# Altium schematic symbol library ICs.SchLib: 131 symbols (part 2 of 2)
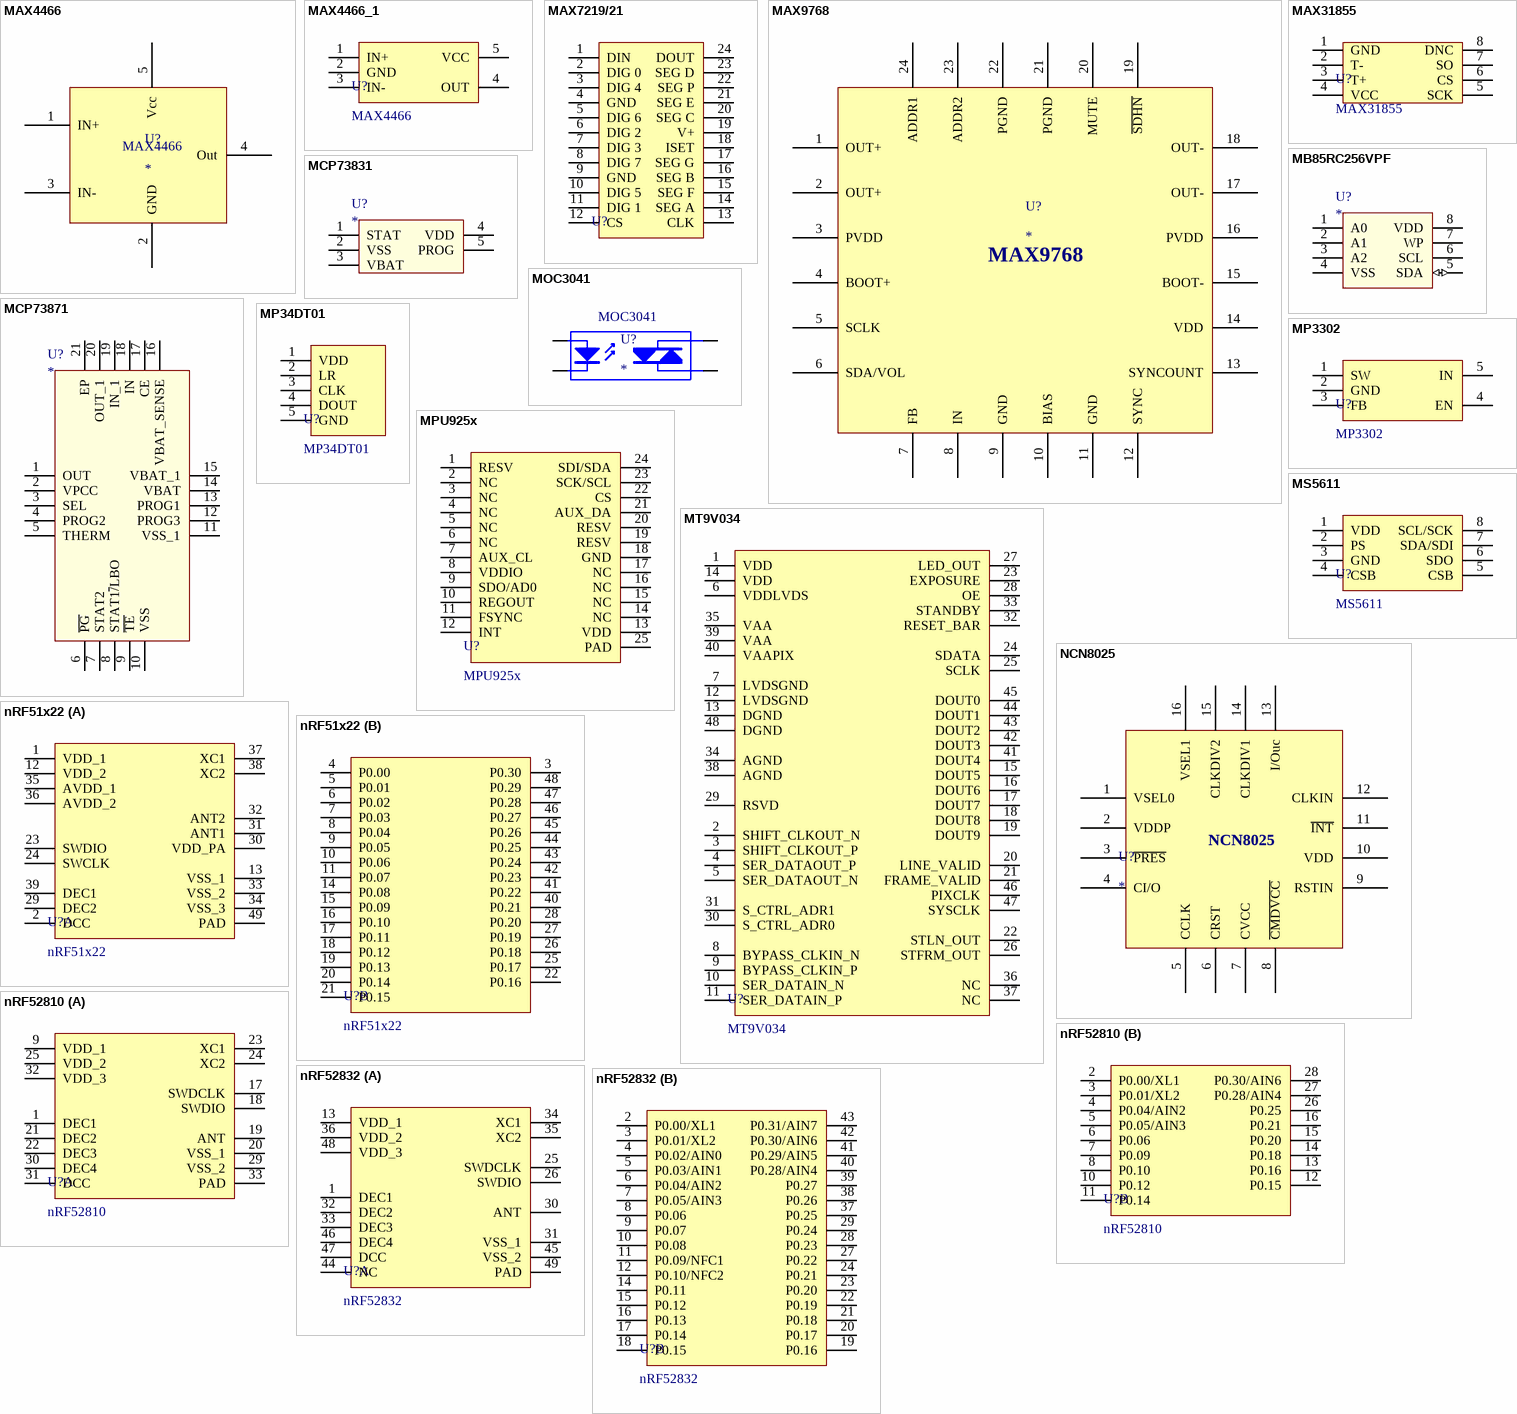
[diagram p10: symbols MAX4466 to nRF52832]

## nRF51x22
designator U?
MCU; Value: 32MHz; Type: QFN48 P0.4
footprint QFN_P0.4_48
part A pins: 1 VDD_1, 2 DCC, 12 VDD_2, 13 VSS_1, 23 SWDIO, 24 SWCLK, 29 DEC2, 30 VDD_PA, 31 ANT1, 32 ANT2, 33 VSS_2, 34 VSS_3, 35 AVDD_1, 36 AVDD_2, 37 XC1, 38 XC2, 39 DEC1, 49 PAD
part B pins: 3 P0.30, 4 P0.00, 5 P0.01, 6 P0.02, 7 P0.03, 8 P0.04, 9 P0.05, 10 P0.06, 11 P0.07, 14 P0.08, 15 P0.09, 16 P0.10, 17 P0.11, 18 P0.12, 19 P0.13, 20 P0.14, 21 P0.15, 22 P0.16, 25 P0.17, 26 P0.18, 27 P0.19, 28 P0.20, 40 P0.21, 41 P0.22, 42 P0.23, 43 P0.24, 44 P0.25, 45 P0.26, 46 P0.27, 47 P0.28, 48 P0.29

## nRF52810
designator U?
MCU; Value: 64MHz; Type: QFN48 P0.4
footprint QFN_P0.5_32
part A pins: 1 DEC1, 9 VDD_1, 17 SWDCLK, 18 SWDIO, 19 ANT, 20 VSS_1, 21 DEC2, 22 DEC3, 23 XC1, 24 XC2, 25 VDD_2, 29 VSS_2, 30 DEC4, 31 DCC, 32 VDD_3, 33 PAD
part B pins: 2 P0.00/XL1, 3 P0.01/XL2, 4 P0.04/AIN2, 5 P0.05/AIN3, 6 P0.06, 7 P0.09, 8 P0.10, 10 P0.12, 11 P0.14, 12 P0.15, 13 P0.16, 14 P0.18, 15 P0.20, 16 P0.21, 26 P0.25, 27 P0.28/AIN4, 28 P0.30/AIN6

## nRF52832
designator U?
MCU; Value: 64MHz; Type: QFN48 P0.4
footprint QFN_P0.4_48
part A pins: 1 DEC1, 13 VDD_1, 25 SWDCLK, 26 SWDIO, 30 ANT, 31 VSS_1, 32 DEC2, 33 DEC3, 34 XC1, 35 XC2, 36 VDD_2, 44 NC, 45 VSS_2, 46 DEC4, 47 DCC, 48 VDD_3, 49 PAD
part B pins: 2 P0.00/XL1, 3 P0.01/XL2, 4 P0.02/AIN0, 5 P0.03/AIN1, 6 P0.04/AIN2, 7 P0.05/AIN3, 8 P0.06, 9 P0.07, 10 P0.08, 11 P0.09/NFC1, 12 P0.10/NFC2, 14 P0.11, 15 P0.12, 16 P0.13, 17 P0.14, 18 P0.15, 19 P0.16, 20 P0.17, 21 P0.18, 22 P0.19, 23 P0.20, 24 P0.21, 27 P0.22, 28 P0.23, 29 P0.24, 37 P0.25, 38 P0.26, 39 P0.27, 40 P0.28/AIN4, 41 P0.29/AIN5, 42 P0.30/AIN6, 43 P0.31/AIN7

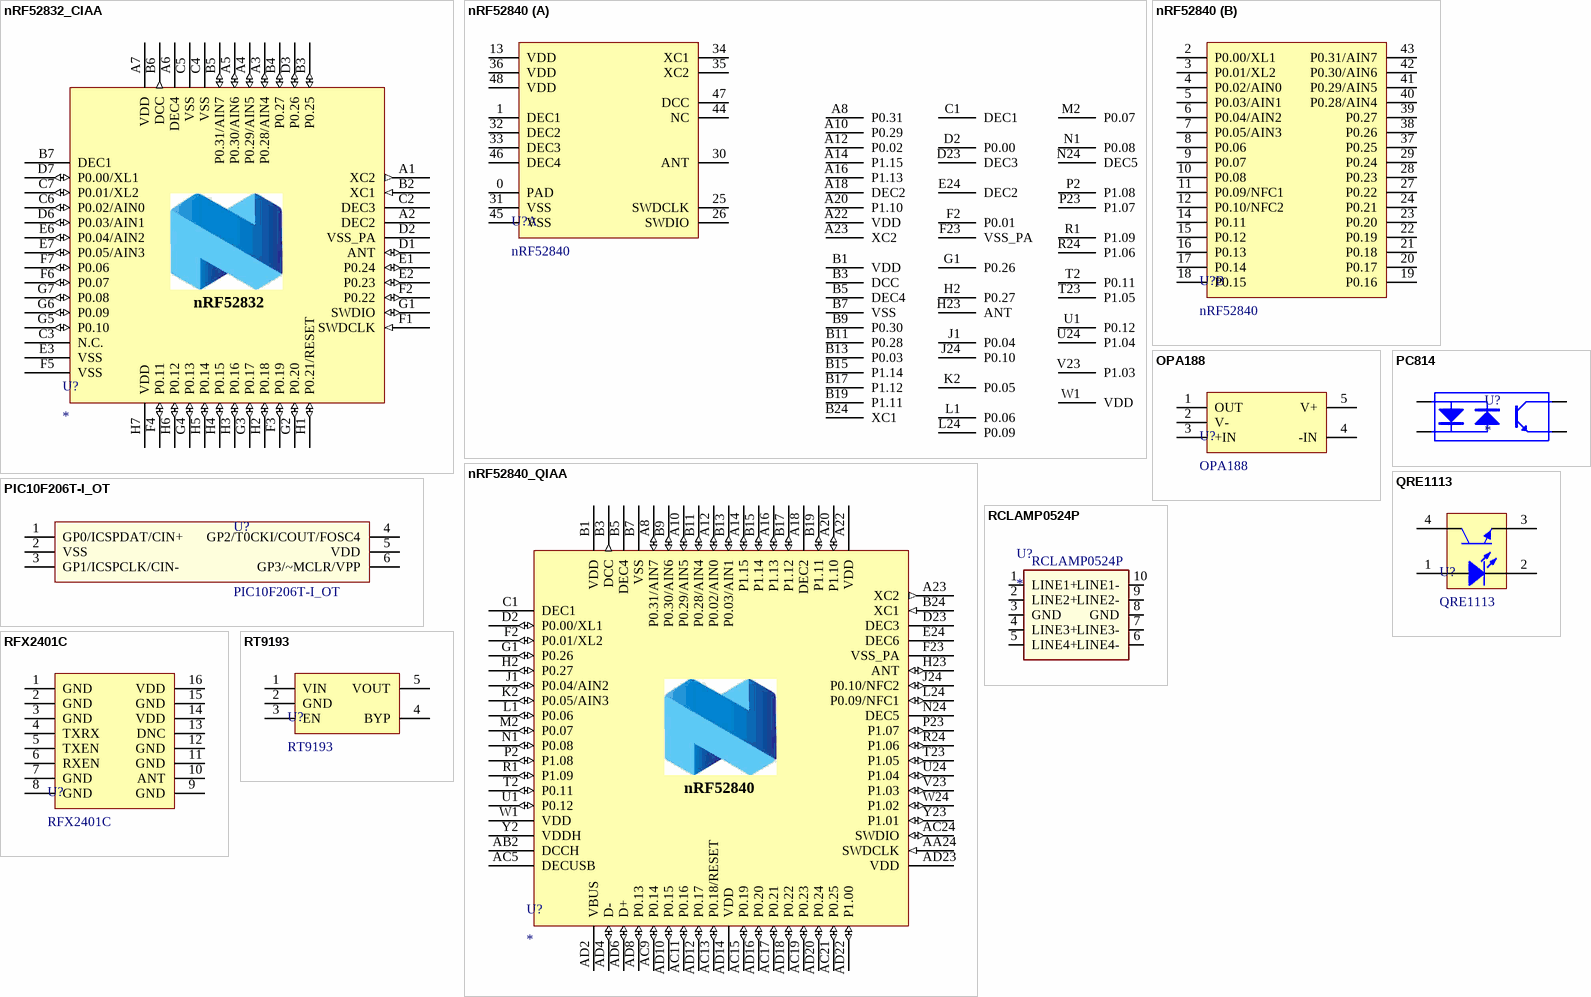
[diagram p6: symbols nRF52832_CIAA to RT9193]

## nRF52832_CIAA
designator U?
footprint BGA50C40P7X8_295X322X50
pins: A1 XC2 (out), A2 DEC2 (power), A3 P0.28/AIN4 (io), A4 P0.29/AIN5 (io), A5 P0.30/AIN6 (io), A6 DEC4 (power), A7 VDD (power), B2 XC1 (in), B3 P0.25 (io), B4 P0.27 (io), B5 P0.31/AIN7 (io), B6 DCC (out), B7 DEC1 (power), C2 DEC3 (power), C3 N.C. (power), C4 VSS (power), C5 VSS (power), C6 P0.02/AIN0 (io), C7 P0.01/XL2 (io), D1 ANT (io), D2 VSS_PA (power), D3 P0.26 (io), D6 P0.03/AIN1 (io), D7 P0.00/XL1 (io), E1 P0.24 (io), E2 P0.23 (io), E3 VSS (power), E6 P0.04/AIN2 (io), E7 P0.05/AIN3 (io), F1 SWDCLK (in), F2 P0.22 (io), F3 P0.19 (io), F4 P0.11 (io), F5 VSS (power), F6 P0.07 (io), F7 P0.06 (io), G1 SWDIO (io), G2 P0.20 (io), G3 P0.17 (io), G4 P0.13 (io), G5 P0.10 (io), G6 P0.09 (io), G7 P0.08 (io), H1 P0.21/RESET (io), H2 P0.18 (io), H3 P0.16 (io), H4 P0.15 (io), H5 P0.14 (io), H6 P0.12 (io), H7 VDD (power)
text: nRF52832

## nRF52840
designator U?
MCU
footprint AQFN_P0.5_73
part A pins: 0 PAD, 1 DEC1, 13 VDD, 25 SWDCLK, 26 SWDIO, 30 ANT, 31 VSS, 32 DEC2, 33 DEC3, 34 XC1, 35 XC2, 36 VDD, 44 NC, 45 VSS, 46 DEC4, 47 DCC, 48 VDD, A8 P0.31, A10 P0.29, A12 P0.02, A14 P1.15, A16 P1.13, A18 DEC2, A20 P1.10, A22 VDD, A23 XC2, B1 VDD, B3 DCC, B5 DEC4, B7 VSS, B9 P0.30, B11 P0.28, B13 P0.03, B15 P1.14, B17 P1.12, B19 P1.11, B24 XC1, C1 DEC1, D2 P0.00, D23 DEC3, E24 DEC2, F2 P0.01, F23 VSS_PA, G1 P0.26, H2 P0.27, H23 ANT, J1 P0.04, J24 P0.10, K2 P0.05, L1 P0.06, L24 P0.09, M2 P0.07, N1 P0.08, N24 DEC5, P2 P1.08, P23 P1.07, R1 P1.09, R24 P1.06, T2 P0.11, T23 P1.05, U1 P0.12, U24 P1.04, V23 P1.03, W1 VDD
part B pins: 2 P0.00/XL1, 3 P0.01/XL2, 4 P0.02/AIN0, 5 P0.03/AIN1, 6 P0.04/AIN2, 7 P0.05/AIN3, 8 P0.06, 9 P0.07, 10 P0.08, 11 P0.09/NFC1, 12 P0.10/NFC2, 14 P0.11, 15 P0.12, 16 P0.13, 17 P0.14, 18 P0.15, 19 P0.16, 20 P0.17, 21 P0.18, 22 P0.19, 23 P0.20, 24 P0.21, 27 P0.22, 28 P0.23, 29 P0.24, 37 P0.25, 38 P0.26, 39 P0.27, 40 P0.28/AIN4, 41 P0.29/AIN5, 42 P0.30/AIN6, 43 P0.31/AIN7

## nRF52840_QIAA
designator U?
footprint nRF52840_QIAA
pins: A8 P0.31/AIN7 (io), A10 P0.29/AIN5 (io), A12 P0.02/AIN0 (io), A14 P1.15 (io), A16 P1.13 (io), A18 DEC2 (power), A20 P1.10 (io), A22 VDD (power), A23 XC2 (out), AA24 SWDCLK (in), AB2 DCCH (power), AC5 DECUSB (power), AC9 P0.14 (io), AC11 P0.16 (io), AC13 P0.18/RESET (io), AC15 P0.19 (io), AC17 P0.21 (io), AC19 P0.23 (io), AC21 P0.25 (io), AC24 SWDIO (io), AD2 VBUS (power), AD4 D- (io), AD6 D+ (io), AD8 P0.13 (io), AD10 P0.15 (io), AD12 P0.17 (io), AD14 VDD (power), AD16 P0.20 (io), AD18 P0.22 (io), AD20 P0.24 (io), AD22 P1.00 (io), AD23 VDD (power), B1 VDD (power), B3 DCC (out), B5 DEC4 (power), B7 VSS (power), B9 P0.30/AIN6 (io), B11 P0.28/AIN4 (io), B13 P0.03/AIN1 (io), B15 P1.14 (io), B17 P1.12 (io), B19 P1.11 (io), B24 XC1 (in), C1 DEC1 (power), D2 P0.00/XL1 (io), D23 DEC3 (power), E24 DEC6 (power), F2 P0.01/XL2 (io), F23 VSS_PA (power), G1 P0.26 (io), H2 P0.27 (io), H23 ANT (io), J1 P0.04/AIN2 (io), J24 P0.10/NFC2 (io), K2 P0.05/AIN3 (io), L1 P0.06 (io), L24 P0.09/NFC1 (io), M2 P0.07 (io), N1 P0.08 (io), N24 DEC5 (power), P2 P1.08 (io), P23 P1.07 (io), R1 P1.09 (io), R24 P1.06 (io), T2 P0.11 (io), T23 P1.05 (io), U1 P0.12 (io), U24 P1.04 (io), V23 P1.03 (io), W1 VDD (power), W24 P1.02 (io), Y2 VDDH (power), Y23 P1.01 (io)
text: nRF52840

## OPA188
designator U?
OP
footprint SOT23-5
pins: 1 OUT, 2 V-, 3 +IN, 4 -IN, 5 V+

## PC814
designator U?
footprint SMT-4
pins: 1 A "Anode", 2 K "Cathode", 3 E "Emitter", 4 C "Collector"

## PIC10F206T-I_OT
designator U?
8-bit Flash Microcontroller; Manufacturer_Name: Microchip; Manufacturer_Part_Number: PIC10F206T-I/OT; Allied_Number: 70046211; RS Part Number: 2508408815; RS Price/Stock: http://uk.rs-online.com/web/p/products/2508408815; Allied Price/Stock: https://www.alliedelec.com/microchip-technology-inc-pic10f206t-i-ot/70046211/; Arrow Part Number: PIC10F206T-I/OT; Arrow Price/Stock: https://www.arrow.com/en/products/pic10f206t-iot/microchip-technology; Datasheet Link: *
footprint SOT23-6N
pins: 1 GP0/ICSPDAT/CIN+, 2 VSS, 3 GP1/ICSPCLK/CIN-, 4 GP2/T0CKI/COUT/FOSC4, 5 VDD, 6 GP3/~MCLR/VPP

## QRE1113
designator U?
Sensor IR
footprint QRE1113GR
pins: 1 A, 2 C, 3 E, 4 C

## RCLAMP0524P
designator U?
footprint RCLAMP0524P
pins: 1 LINE1+, 2 LINE2+, 3 GND (power), 4 LINE3+, 5 LINE4+, 6 LINE4-, 7 LINE3-, 8 GND (power), 9 LINE2-, 10 LINE1-

## RFX2401C
designator U?
Radio PA/LNA; Type: QFN16 P0.5
footprint QFN_P0.5_16
pins: 1 GND, 2 GND, 3 GND, 4 TXRX, 5 TXEN, 6 RXEN, 7 GND, 8 GND, 9 GND, 10 ANT, 11 GND, 12 GND, 13 DNC, 14 VDD, 15 GND, 16 VDD

## RT9193
designator U?
Power; Value: 3V3; Type: SOT23-5
footprint SOT23-5
pins: 1 VIN, 2 GND, 3 EN (power), 4 BYP, 5 VOUT

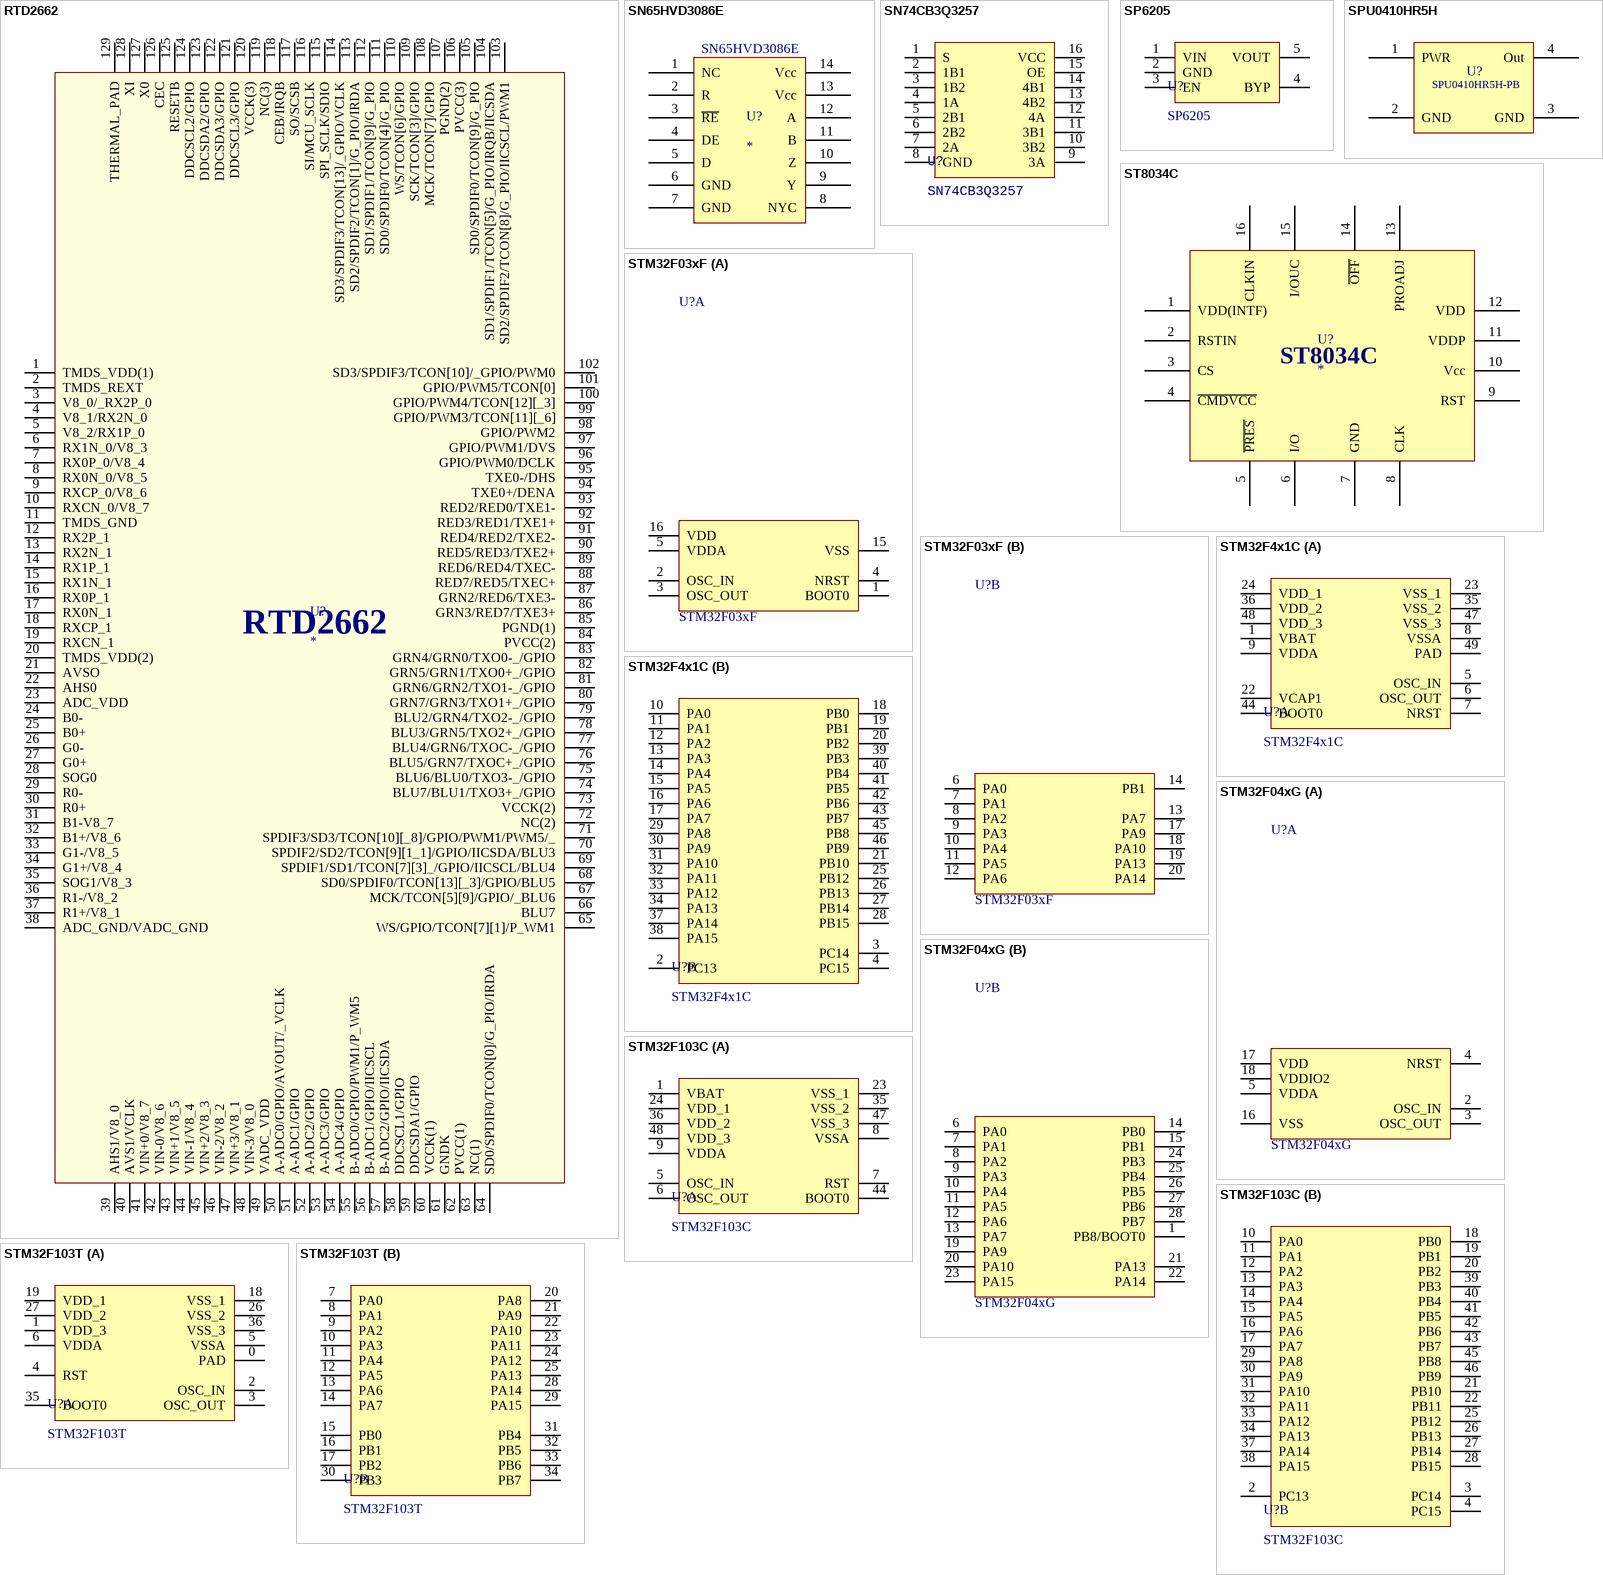
[diagram p7: symbols RTD2662 to STM32F103T]

## RTD2662
designator U?
footprint QFP128
pins: 1 TMDS_VDD(1), 2 TMDS_REXT, 3 V8_0/_RX2P_0, 4 V8_1/RX2N_0, 5 V8_2/RX1P_0, 6 RX1N_0/V8_3, 7 RX0P_0/V8_4, 8 RX0N_0/V8_5, 9 RXCP_0/V8_6, 10 RXCN_0/V8_7, 11 TMDS_GND, 12 RX2P_1, 13 RX2N_1, 14 RX1P_1, 15 RX1N_1, 16 RX0P_1, 17 RX0N_1, 18 RXCP_1, 19 RXCN_1, 20 TMDS_VDD(2), 21 AVSO, 22 AHS0, 23 ADC_VDD, 24 B0-, 25 B0+, 26 G0-, 27 G0+, 28 SOG0, 29 R0-, 30 R0+, 31 B1-V8_7, 32 B1+/V8_6, 33 G1-/V8_5, 34 G1+/V8_4, 35 SOG1/V8_3, 36 R1-/V8_2, 37 R1+/V8_1, 38 ADC_GND/VADC_GND, 39 AHS1/V8_0, 40 AVS1/VCLK, 41 VIN+0/V8_7, 42 VIN-0/V8_6, 43 VIN+1/V8_5, 44 VIN-1/V8_4, 45 VIN+2/V8_3, 46 VIN-2/V8_2, 47 VIN+3/V8_1, 48 VIN-3/V8_0, 49 VADC_VDD, 50 A-ADC0/GPIO/AVOUT/_VCLK, 51 A-ADC1/GPIO, 52 A-ADC2/GPIO, 53 A-ADC3/GPIO, 54 A-ADC4/GPIO, 55 B-ADC0/GPIO/PWM1/P_WM5, 56 B-ADC1/GPIO/IICSCL, 57 B-ADC2/GPIO/IICSDA, 58 DDCSCL1/GPIO, 59 DDCSDA1/GPIO, 60 VCCK(1), 61 GNDK, 62 PVCC(1), 63 NC(1), 64 SD0/SPDIF0/TCON[0]/G_PIO/IRDA, 65 WS/GPIO/TCON[7][1]/P_WM1, 66 BLU7, 67 MCK/TCON[5][9]/GPIO/_BLU6, 68 SD0/SPDIF0/TCON[13][_3]/GPIO/BLU5, 69 SPDIF1/SD1/TCON[7][3]_/GPIO/IICSCL/BLU4, 70 SPDIF2/SD2/TCON[9][1_1]/GPIO/IICSDA/BLU3, 71 SPDIF3/SD3/TCON[10][_8]/GPIO/PWM1/PWM5/_, 72 NC(2), 73 VCCK(2), 74 BLU7/BLU1/TXO3+_/GPIO, 75 BLU6/BLU0/TXO3-_/GPIO, 76 BLU5/GRN7/TXOC+_/GPIO, 77 BLU4/GRN6/TXOC-_/GPIO, 78 BLU3/GRN5/TXO2+_/GPIO, 79 BLU2/GRN4/TXO2-_/GPIO, 80 GRN7/GRN3/TXO1+_/GPIO, 81 GRN6/GRN2/TXO1-_/GPIO, 82 GRN5/GRN1/TXO0+_/GPIO, 83 GRN4/GRN0/TXO0-_/GPIO, 84 PVCC(2), 85 PGND(1), 86 GRN3/RED7/TXE3+, 87 GRN2/RED6/TXE3-, 88 RED7/RED5/TXEC+, 89 RED6/RED4/TXEC-, 90 RED5/RED3/TXE2+, 91 RED4/RED2/TXE2-, 92 RED3/RED1/TXE1+, 93 RED2/RED0/TXE1-, 94 TXE0+/DENA, 95 TXE0-/DHS, 96 GPIO/PWM0/DCLK, 97 GPIO/PWM1/DVS, 98 GPIO/PWM2, 99 GPIO/PWM3/TCON[11][_6], 100 GPIO/PWM4/TCON[12][_3], 101 GPIO/PWM5/TCON[0], 102 SD3/SPDIF3/TCON[10]/_GPIO/PWM0, 103 SD2/SPDIF2/TCON[8]/G_PIO/IICSCL/PWM1, 104 SD1/SPDIF1/TCON[5]/G_PIO/IRQB/IICSDA, 105 SD0/SPDIF0/TCON[9]/G_PIO, 106 PVCC(3), 107 PGND(2), 108 MCK/TCON[7]/GPIO, 109 SCK/TCON[3]/GPIO, 110 WS/TCON[6]/GPIO, 111 SD0/SPDIF0/TCON[4]/G_PIO, 112 SD1/SPDIF1/TCON[9]/G_PIO, 113 SD2/SPDIF2/TCON[1]/G_PIO/IRDA, 114 SD3/SPDIF3/TCON[13]/_GPIO/VCLK, 115 SPI_SCLK/SDIO, 116 SI/MCU_SCLK, 117 SO/SCSB, 118 CEB/IRQB, 119 NC(3), 120 VCCK(3), 121 DDCSCL3/GPIO, 122 DDCSDA3/GPIO, 123 DDCSDA2/GPIO, 124 DDCSCL2/GPIO, 125 RESETB, 126 CEC, 127 X0, 128 XI, 129 THERMAL_PAD

## SN65HVD3086E
designator U?
pins: 1 NC, 2 R, 3 ~{RE}, 4 DE, 5 D, 6 GND, 7 GND, 8 NYC, 9 Y, 10 Z, 11 B, 12 A, 13 Vcc, 14 Vcc

## SN74CB3Q3257
designator U?
Switch; Type: TSSOP16 P0.65
footprint TSSOP_E170_P0.65_16
pins: 1 S, 2 1B1, 3 1B2, 4 1A, 5 2B1, 6 2B2, 7 2A, 8 GND, 9 3A, 10 3B2, 11 3B1, 12 4A, 13 4B2, 14 4B1, 15 OE, 16 VCC

## SP6205
designator U?
Power; Type: SOT23-5
footprint SOT23-5
pins: 1 VIN, 2 GND, 3 EN (power), 4 BYP, 5 VOUT

## SPU0410HR5H
designator U?  (value not drawn)
footprint SPW2430HR5H-B
pins: 1 PWR, 2 GND, 3 GND, 4 Out
text: SPU0410HR5H‐PB

## ST8034C
designator U?
footprint QFN16
pins: 1 VDD(INTF), 2 RSTIN, 3 CS, 4 ~{CMDVCC}, 5 ~{PRES}, 6 I/O, 7 GND, 8 CLK, 9 RST, 10 Vcc, 11 VDDP, 12 VDD, 13 PROADJ, 14 ~{OFF}, 15 I/OUC, 16 CLKIN

## STM32F03xF
designator U?
MCU
footprint TSSOP_E170_P0.65_20
part A pins: 1 BOOT0, 2 OSC_IN, 3 OSC_OUT, 4 NRST, 5 VDDA, 15 VSS, 16 VDD
part B pins: 6 PA0, 7 PA1, 8 PA2, 9 PA3, 10 PA4, 11 PA5, 12 PA6, 13 PA7, 14 PB1, 17 PA9, 18 PA10, 19 PA13, 20 PA14

## STM32F4x1C
designator U?
MCU; Value: 100MHz; Type: QFN48 P0.5
footprint QFN_P0.5_48
part A pins: 1 VBAT, 5 OSC_IN, 6 OSC_OUT, 7 NRST, 8 VSSA, 9 VDDA, 22 VCAP1, 23 VSS_1, 24 VDD_1, 35 VSS_2, 36 VDD_2, 44 BOOT0, 47 VSS_3, 48 VDD_3, 49 PAD
part B pins: 2 PC13, 3 PC14, 4 PC15, 10 PA0, 11 PA1, 12 PA2, 13 PA3, 14 PA4, 15 PA5, 16 PA6, 17 PA7, 18 PB0, 19 PB1, 20 PB2, 21 PB10, 25 PB12, 26 PB13, 27 PB14, 28 PB15, 29 PA8, 30 PA9, 31 PA10, 32 PA11, 33 PA12, 34 PA13, 37 PA14, 38 PA15, 39 PB3, 40 PB4, 41 PB5, 42 PB6, 43 PB7, 45 PB8, 46 PB9

## STM32F04xG
designator U?
MCU
footprint QFN_P0.5_28
part A pins: 2 OSC_IN, 3 OSC_OUT, 4 NRST, 5 VDDA, 16 VSS, 17 VDD, 18 VDDIO2
part B pins: 1 PB8/BOOT0, 6 PA0, 7 PA1, 8 PA2, 9 PA3, 10 PA4, 11 PA5, 12 PA6, 13 PA7, 14 PB0, 15 PB1, 19 PA9, 20 PA10, 21 PA13, 22 PA14, 23 PA15, 24 PB3, 25 PB4, 26 PB5, 27 PB6, 28 PB7

## STM32F103C
designator U?
MCU; Type: LQFP48 P0.5
footprint LQFP_P0.5_48
part A pins: 1 VBAT, 5 OSC_IN, 6 OSC_OUT, 7 RST, 8 VSSA, 9 VDDA, 23 VSS_1, 24 VDD_1, 35 VSS_2, 36 VDD_2, 44 BOOT0, 47 VSS_3, 48 VDD_3
part B pins: 2 PC13, 3 PC14, 4 PC15, 10 PA0, 11 PA1, 12 PA2, 13 PA3, 14 PA4, 15 PA5, 16 PA6, 17 PA7, 18 PB0, 19 PB1, 20 PB2, 21 PB10, 22 PB11, 25 PB12, 26 PB13, 27 PB14, 28 PB15, 29 PA8, 30 PA9, 31 PA10, 32 PA11, 33 PA12, 34 PA13, 37 PA14, 38 PA15, 39 PB3, 40 PB4, 41 PB5, 42 PB6, 43 PB7, 45 PB8, 46 PB9

## STM32F103T
designator U?
MCU; Type: QFN36 P0.5
footprint QFN_P0.5_36
part A pins: 0 PAD, 1 VDD_3, 2 OSC_IN, 3 OSC_OUT, 4 RST, 5 VSSA, 6 VDDA, 18 VSS_1, 19 VDD_1, 26 VSS_2, 27 VDD_2, 35 BOOT0, 36 VSS_3
part B pins: 7 PA0, 8 PA1, 9 PA2, 10 PA3, 11 PA4, 12 PA5, 13 PA6, 14 PA7, 15 PB0, 16 PB1, 17 PB2, 20 PA8, 21 PA9, 22 PA10, 23 PA11, 24 PA12, 25 PA13, 28 PA14, 29 PA15, 30 PB3, 31 PB4, 32 PB5, 33 PB6, 34 PB7

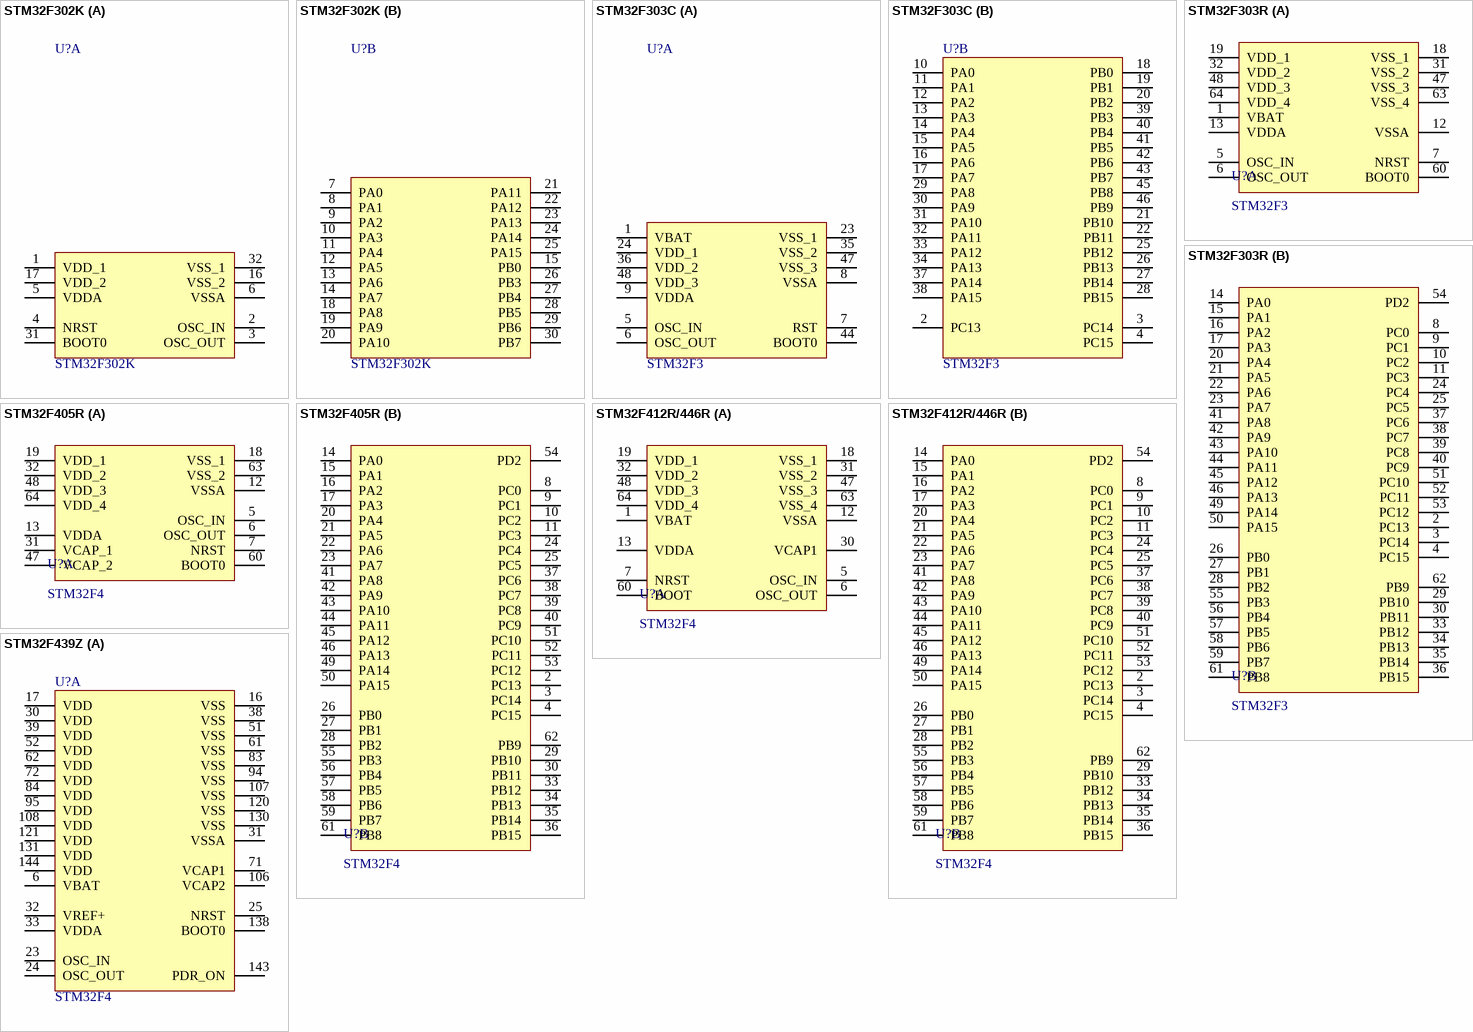
[diagram p8: symbols STM32F302K to STM32F439Z]

## STM32F302K
designator U?
MCU
footprint QFN_P0.5_32
part A pins: 1 VDD_1, 2 OSC_IN, 3 OSC_OUT, 4 NRST, 5 VDDA, 6 VSSA, 16 VSS_2, 17 VDD_2, 31 BOOT0, 32 VSS_1
part B pins: 7 PA0, 8 PA1, 9 PA2, 10 PA3, 11 PA4, 12 PA5, 13 PA6, 14 PA7, 15 PB0, 18 PA8, 19 PA9, 20 PA10, 21 PA11, 22 PA12, 23 PA13, 24 PA14, 25 PA15, 26 PB3, 27 PB4, 28 PB5, 29 PB6, 30 PB7

## STM32F303C
designator U?, comment STM32F3
MCU
footprint LQFP_P0.5_48
part A pins: 1 VBAT, 5 OSC_IN, 6 OSC_OUT, 7 RST, 8 VSSA, 9 VDDA, 23 VSS_1, 24 VDD_1, 35 VSS_2, 36 VDD_2, 44 BOOT0, 47 VSS_3, 48 VDD_3
part B pins: 2 PC13, 3 PC14, 4 PC15, 10 PA0, 11 PA1, 12 PA2, 13 PA3, 14 PA4, 15 PA5, 16 PA6, 17 PA7, 18 PB0, 19 PB1, 20 PB2, 21 PB10, 22 PB11, 25 PB12, 26 PB13, 27 PB14, 28 PB15, 29 PA8, 30 PA9, 31 PA10, 32 PA11, 33 PA12, 34 PA13, 37 PA14, 38 PA15, 39 PB3, 40 PB4, 41 PB5, 42 PB6, 43 PB7, 45 PB8, 46 PB9

## STM32F303R
designator U?, comment STM32F3
MCU
footprint LQFP_P0.5_64
part A pins: 1 VBAT, 5 OSC_IN, 6 OSC_OUT, 7 NRST, 12 VSSA, 13 VDDA, 18 VSS_1, 19 VDD_1, 31 VSS_2, 32 VDD_2, 47 VSS_3, 48 VDD_3, 60 BOOT0, 63 VSS_4, 64 VDD_4
part B pins: 2 PC13, 3 PC14, 4 PC15, 8 PC0, 9 PC1, 10 PC2, 11 PC3, 14 PA0, 15 PA1, 16 PA2, 17 PA3, 20 PA4, 21 PA5, 22 PA6, 23 PA7, 24 PC4, 25 PC5, 26 PB0, 27 PB1, 28 PB2, 29 PB10, 30 PB11, 33 PB12, 34 PB13, 35 PB14, 36 PB15, 37 PC6, 38 PC7, 39 PC8, 40 PC9, 41 PA8, 42 PA9, 43 PA10, 44 PA11, 45 PA12, 46 PA13, 49 PA14, 50 PA15, 51 PC10, 52 PC11, 53 PC12, 54 PD2, 55 PB3, 56 PB4, 57 PB5, 58 PB6, 59 PB7, 61 PB8, 62 PB9

## STM32F405R
designator U?, comment STM32F4
MCU
footprint LQFP_P0.5_64
part A pins: 5 OSC_IN, 6 OSC_OUT, 7 NRST, 12 VSSA, 13 VDDA, 18 VSS_1, 19 VDD_1, 31 VCAP_1, 32 VDD_2, 47 VCAP_2, 48 VDD_3, 60 BOOT0, 63 VSS_2, 64 VDD_4
part B pins: 2 PC13, 3 PC14, 4 PC15, 8 PC0, 9 PC1, 10 PC2, 11 PC3, 14 PA0, 15 PA1, 16 PA2, 17 PA3, 20 PA4, 21 PA5, 22 PA6, 23 PA7, 24 PC4, 25 PC5, 26 PB0, 27 PB1, 28 PB2, 29 PB10, 30 PB11, 33 PB12, 34 PB13, 35 PB14, 36 PB15, 37 PC6, 38 PC7, 39 PC8, 40 PC9, 41 PA8, 42 PA9, 43 PA10, 44 PA11, 45 PA12, 46 PA13, 49 PA14, 50 PA15, 51 PC10, 52 PC11, 53 PC12, 54 PD2, 55 PB3, 56 PB4, 57 PB5, 58 PB6, 59 PB7, 61 PB8, 62 PB9

## STM32F412R/446R
designator U?, comment STM32F4
MCU
footprint LQFP_P0.5_64
part A pins: 1 VBAT, 5 OSC_IN, 6 OSC_OUT, 7 NRST, 12 VSSA, 13 VDDA, 18 VSS_1, 19 VDD_1, 30 VCAP1, 31 VSS_2, 32 VDD_2, 47 VSS_3, 48 VDD_3, 60 BOOT, 63 VSS_4, 64 VDD_4
part B pins: 2 PC13, 3 PC14, 4 PC15, 8 PC0, 9 PC1, 10 PC2, 11 PC3, 14 PA0, 15 PA1, 16 PA2, 17 PA3, 20 PA4, 21 PA5, 22 PA6, 23 PA7, 24 PC4, 25 PC5, 26 PB0, 27 PB1, 28 PB2, 29 PB10, 33 PB12, 34 PB13, 35 PB14, 36 PB15, 37 PC6, 38 PC7, 39 PC8, 40 PC9, 41 PA8, 42 PA9, 43 PA10, 44 PA11, 45 PA12, 46 PA13, 49 PA14, 50 PA15, 51 PC10, 52 PC11, 53 PC12, 54 PD2, 55 PB3, 56 PB4, 57 PB5, 58 PB6, 59 PB7, 61 PB8, 62 PB9

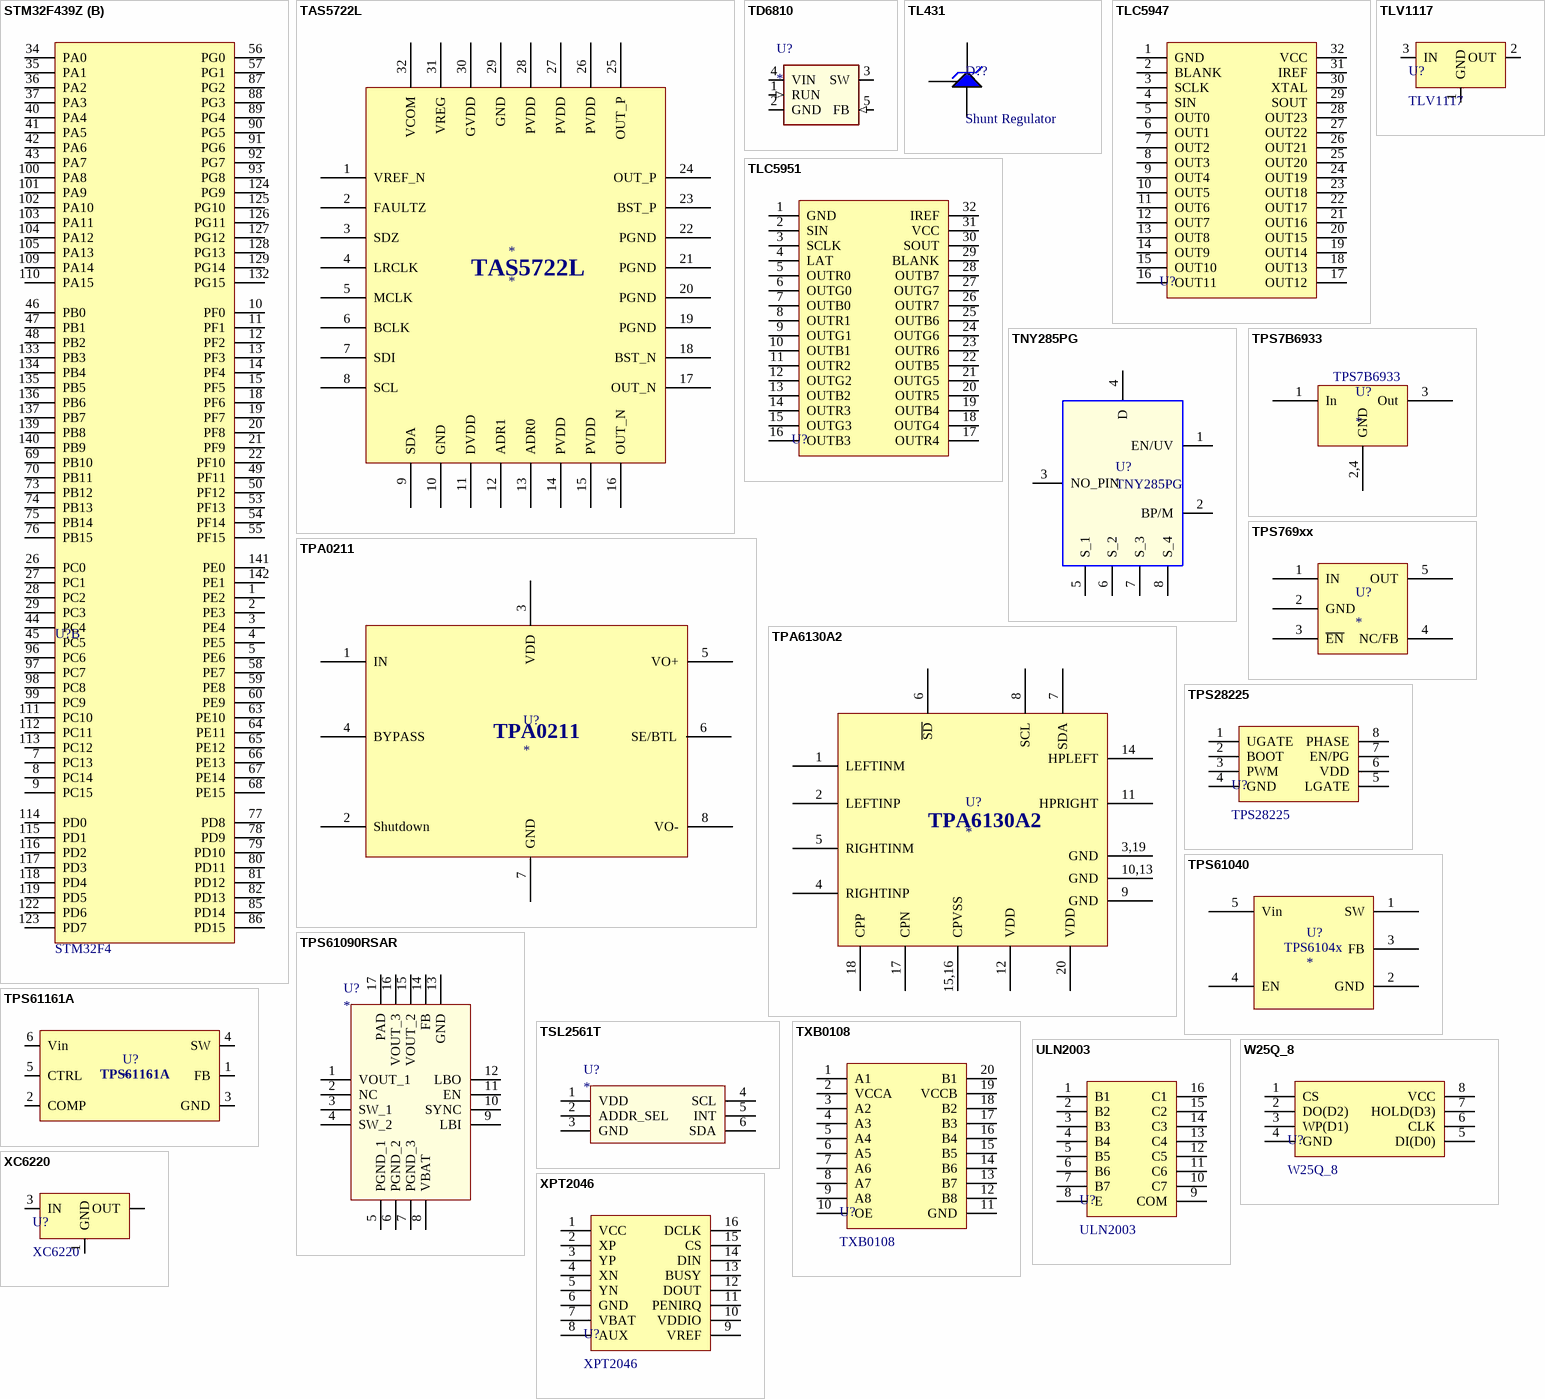
[diagram p9: symbols STM32F439Z to XPT2046]

## STM32F439Z
designator U?, comment STM32F4
MCU
footprint LQFP_P0.5_144
part A pins: 6 VBAT, 16 VSS, 17 VDD, 23 OSC_IN, 24 OSC_OUT, 25 NRST, 30 VDD, 31 VSSA, 32 VREF+, 33 VDDA, 38 VSS, 39 VDD, 51 VSS, 52 VDD, 61 VSS, 62 VDD, 71 VCAP1, 72 VDD, 83 VSS, 84 VDD, 94 VSS, 95 VDD, 106 VCAP2, 107 VSS, 108 VDD, 120 VSS, 121 VDD, 130 VSS, 131 VDD, 138 BOOT0, 143 PDR_ON, 144 VDD
part B pins: 1 PE2, 2 PE3, 3 PE4, 4 PE5, 5 PE6, 7 PC13, 8 PC14, 9 PC15, 10 PF0, 11 PF1, 12 PF2, 13 PF3, 14 PF4, 15 PF5, 18 PF6, 19 PF7, 20 PF8, 21 PF9, 22 PF10, 26 PC0, 27 PC1, 28 PC2, 29 PC3, 34 PA0, 35 PA1, 36 PA2, 37 PA3, 40 PA4, 41 PA5, 42 PA6, 43 PA7, 44 PC4, 45 PC5, 46 PB0, 47 PB1, 48 PB2, 49 PF11, 50 PF12, 53 PF13, 54 PF14, 55 PF15, 56 PG0, 57 PG1, 58 PE7, 59 PE8, 60 PE9, 63 PE10, 64 PE11, 65 PE12, 66 PE13, 67 PE14, 68 PE15, 69 PB10, 70 PB11, 73 PB12, 74 PB13, 75 PB14, 76 PB15, 77 PD8, 78 PD9, 79 PD10, 80 PD11, 81 PD12, 82 PD13, 85 PD14, 86 PD15, 87 PG2, 88 PG3, 89 PG4, 90 PG5, 91 PG6, 92 PG7, 93 PG8, 96 PC6, 97 PC7, 98 PC8, 99 PC9, 100 PA8, 101 PA9, 102 PA10, 103 PA11, 104 PA12, 105 PA13, 109 PA14, 110 PA15, 111 PC10, 112 PC11, 113 PC12, 114 PD0, 115 PD1, 116 PD2, 117 PD3, 118 PD4, 119 PD5, 122 PD6, 123 PD7, 124 PG9, 125 PG10, 126 PG11, 127 PG12, 128 PG13, 129 PG14, 132 PG15, 133 PB3, 134 PB4, 135 PB5, 136 PB6, 137 PB7, 139 PB8, 140 PB9, 141 PE0, 142 PE1

## TAS5722L
designator *
pins: 1 VREF_N, 2 FAULTZ, 3 SDZ, 4 LRCLK, 5 MCLK, 6 BCLK, 7 SDI, 8 SCL, 9 SDA, 10 GND, 11 DVDD, 12 ADR1, 13 ADR0, 14 PVDD, 15 PVDD, 16 OUT_N, 17 OUT_N, 18 BST_N, 19 PGND, 20 PGND, 21 PGND, 22 PGND, 23 BST_P, 24 OUT_P, 25 OUT_P, 26 PVDD, 27 PVDD, 28 PVDD, 29 GND, 30 GVDD, 31 VREG, 32 VCOM

## TD6810
designator U?
footprint SOT23
pins: 1 RUN (in), 2 GND (power), 3 SW (power), 4 VIN (power), 5 FB (in)

## TL431
designator D??, comment Shunt Regulator
Published: 8-Jun-2000; LatestRevisionDate: 17-Jul-2002; LatestRevisionNote: Re-released for DXP Platform.; PackageReference: DIODE-0.7; Publisher: Altium Limited; PackageDescription: Diode, Thru-Hole; 2 Leads; 0.7 in Pin Spacing
footprint TL431_SOT23
footprint SOT23-3
pins: 1 K, 2 Ref, 3 A

## TLC5947
designator U?  (value not drawn)
LED Driver
footprint TSSOP_E250H_P0.65_32
pins: 1 GND, 2 BLANK, 3 SCLK, 4 SIN, 5 OUT0, 6 OUT1, 7 OUT2, 8 OUT3, 9 OUT4, 10 OUT5, 11 OUT6, 12 OUT7, 13 OUT8, 14 OUT9, 15 OUT10, 16 OUT11, 17 OUT12, 18 OUT13, 19 OUT14, 20 OUT15, 21 OUT16, 22 OUT17, 23 OUT18, 24 OUT19, 25 OUT20, 26 OUT21, 27 OUT22, 28 OUT23, 29 SOUT, 30 XTAL, 31 IREF, 32 VCC

## TLC5951
designator U?  (value not drawn)
LED Driver
footprint TSSOP_E250H_P0.65_32
pins: 1 GND, 2 SIN, 3 SCLK, 4 LAT, 5 OUTR0, 6 OUTG0, 7 OUTB0, 8 OUTR1, 9 OUTG1, 10 OUTB1, 11 OUTR2, 12 OUTG2, 13 OUTB2, 14 OUTR3, 15 OUTG3, 16 OUTB3, 17 OUTR4, 18 OUTG4, 19 OUTB4, 20 OUTR5, 21 OUTG5, 22 OUTB5, 23 OUTR6, 24 OUTG6, 25 OUTB6, 26 OUTR7, 27 OUTG7, 28 OUTB7, 29 BLANK, 30 SOUT, 31 VCC, 32 IREF

## TLV1117
designator U?
Power
footprint SOT223-3
pins: 1 GND (power), 2 OUT (power), 3 IN (power)

## TNY285PG
designator U?
footprint TNY285PG
pins: 1 EN/UV, 2 BP/M, 3 NO_PIN, 4 D, 5 S_1, 6 S_2, 7 S_3, 8 S_4

## TPA0211
designator U?
footprint S-PDSO-G8
pins: 1 IN, 2 Shutdown, 3 VDD, 4 BYPASS, 5 VO+, 6 SE/BTL, 7 GND, 8 VO-

## TPA6130A2
designator U?
footprint WQFN20
pins: 1 LEFTINM, 2 LEFTINP, 3,19 GND, 4 RIGHTINP, 5 RIGHTINM, 6 ~{SD}, 7 SDA, 8 SCL, 9 GND, 10,13 GND, 11 HPRIGHT, 12 VDD, 14 HPLEFT, 15,16 CPVSS, 17 CPN, 18 CPP, 20 VDD

## TPS7B6933
designator U?
footprint SOT223 (SOT223, 4-Leads, Body 6.50x7.00mm (avg), Pitch 2.30mm, IPC Medium Density)
pins: 1 In, 2,4 GND, 3 Out

## TPS769xx
designator U?
pins: 1 IN, 2 GND, 3 ~{EN}, 4 NC/FB, 5 OUT

## TPS28225
designator U?
MOSFET Driver
footprint SOP_E150_8
pins: 1 UGATE, 2 BOOT, 3 PWM, 4 GND, 5 LGATE, 6 VDD, 7 EN/PG, 8 PHASE

## TPS61040
designator U?
footprint SOT23
pins: 1 SW, 2 GND, 3 FB, 4 EN, 5 Vin
text: TPS6104x

## TPS61090RSAR
designator U?
footprint QFN65P400X400X100-17N
pins: 1 VOUT_1, 2 NC, 3 SW_1, 4 SW_2, 5 PGND_1, 6 PGND_2, 7 PGND_3, 8 VBAT, 9 LBI, 10 SYNC, 11 EN, 12 LBO, 13 GND, 14 FB, 15 VOUT_2, 16 VOUT_3, 17 PAD

## TPS61161A
designator U?
footprint WSON-6
pins: 1 FB, 2 COMP, 3 GND, 4 SW, 5 CTRL, 6 Vin

## TSL2561T
designator U?
footprint TMB-6
pins: 1 VDD, 2 ADDR_SEL, 3 GND, 4 SCL, 5 INT, 6 SDA

## TXB0108
designator U?
VoltageLevel
footprint TSSOP_E170_P0.65_20
pins: 1 A1, 2 VCCA, 3 A2, 4 A3, 5 A4, 6 A5, 7 A6, 8 A7, 9 A8, 10 OE, 11 GND, 12 B8, 13 B7, 14 B6, 15 B5, 16 B4, 17 B3, 18 B2, 19 VCCB, 20 B1

## ULN2003
designator U?
Driver
footprint SOP_E150_16
footprint DIP_300_16
pins: 1 B1, 2 B2, 3 B3, 4 B4, 5 B5, 6 B6, 7 B7, 8 E, 9 COM, 10 C7, 11 C6, 12 C5, 13 C4, 14 C3, 15 C2, 16 C1

## W25Q_8
designator U?
FLASH
footprint SOIC_E200_8
footprint SON_P1.27H_8 (SON, 8-Leads, Body 5.00x6.00mm, Pitch 1.27mm, Thermal Pad 3.40x4.30mm, IPC High Density)
pins: 1 CS, 2 DO(D2), 3 WP(D1), 4 GND, 5 DI(D0), 6 CLK, 7 HOLD(D3), 8 VCC

## XC6220
designator U?
Power
footprint SOT89-3
pins: 1 GND (power), 2 OUT (power), 3 IN (power)

## XPT2046
designator U?
Touch
footprint TSSOP_E170_P0.65_16
pins: 1 VCC, 2 XP, 3 YP, 4 XN, 5 YN, 6 GND, 7 VBAT, 8 AUX, 9 VREF, 10 VDDIO, 11 PENIRQ, 12 DOUT, 13 BUSY, 14 DIN, 15 CS, 16 DCLK